# Altium schematic symbol library JLCPCB_XTAL_RESONATOR_SMD.SchLib: 2 symbols
Pins are listed as number, name and electrical type; pins without a type are passive.

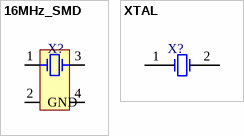
[diagram p0: symbols 16MHz_SMD to XTAL]

## 16MHz_SMD
designator X?, comment basic  (value not drawn)
SMD Crystal Resonators 16MHz ±10ppm SMD-3225_4P RoHS; MFR_Part#: X322516MLB4SI; Manufacturer: Yangxing Tech; ComponentLink1Description: Datasheet; ComponentLink1URL: https://datasheet.lcsc.com/szlcsc/Yangxing-Tech-X322516MLB4SI_C13738.pdf; Frequency: 16MHz; LCSC_Part#: C13738; Package: SMD-CRY-3225_4P; Freq. tolerance: 10PPM
footprint SMD-CRY-3225_4P (DFN, 4-Leads, Body 2,50x3,20mm, Pitch 2,00mm, IPC Medium Density)
pins: 1 OSC1, 2 GND (power), 3 OSC2, 4 GND (power)

## XTAL
designator X?, comment basic  (value not drawn)
ComponentLink1Description: Datasheet; ComponentLink1URL: *; Frequency: *; LCSC_Part#: *; MFR_Part#: *; Manufacturer: *; Package: *; Freq. tolerance: *
pins: 1 OSC1, 2 OSC2